# Altium schematic symbol library ToradexMainBoard-V0I1.SCHLIB: 303 symbols (part 8 of 14)
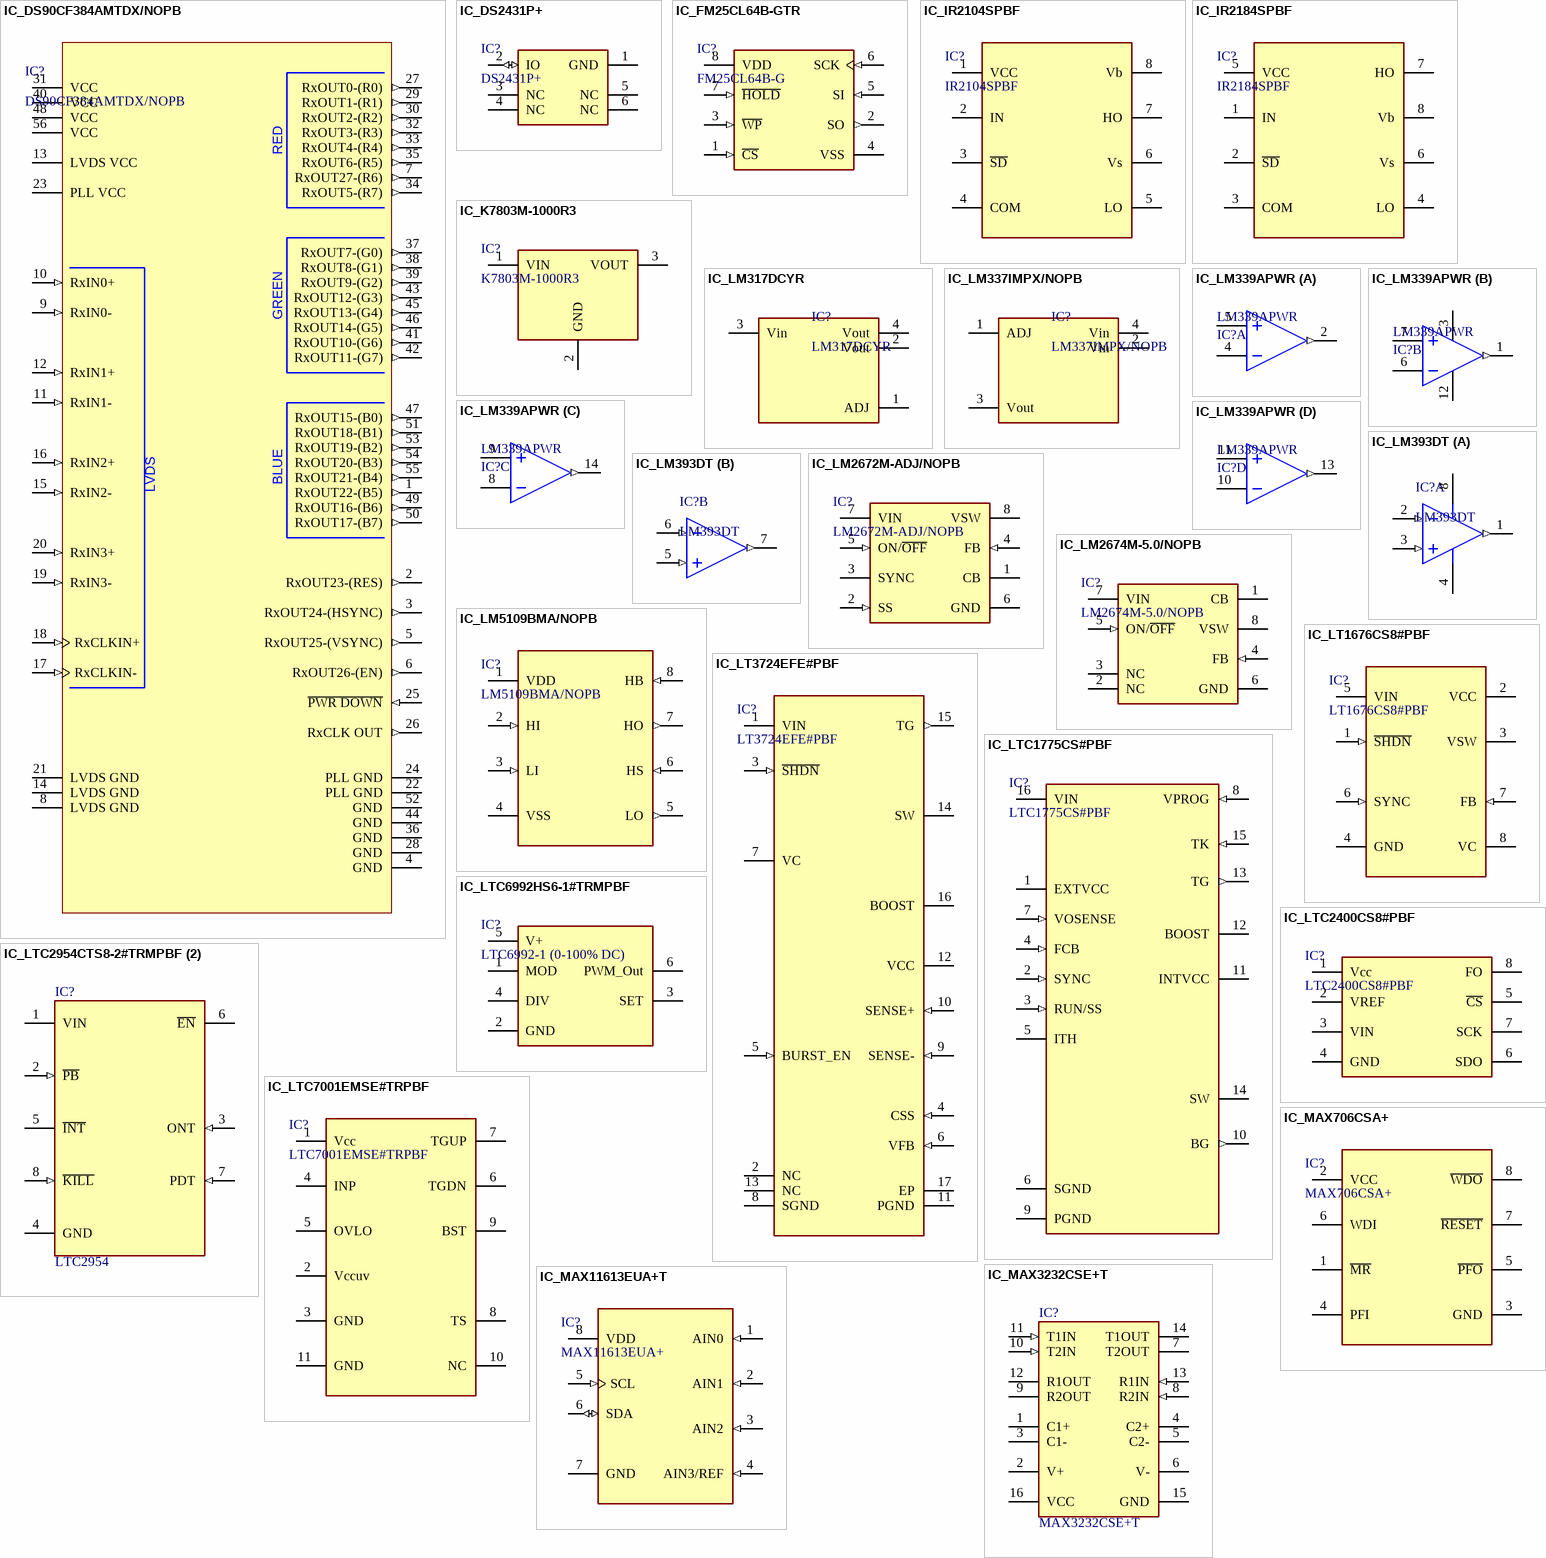
[diagram p22: symbols IC_DS90CF384AMTDX/NOPB to IC_MAX11613EUA+T]

## IC_LTC6992HS6-1#TRMPBF
designator IC?, comment LTC6992-1 (0-100% DC)
Linear Technology LTC6992HS6-1#TRMPBF Linear IC; Manufacturer: Analog Devices / Linear Technology; Frequency: 3.81Hz; Operating Supply Current: 365uA; Supplier 1: Digi-Key; Manufacturer Part Number: LTC6992HS6-1#TRMPBF; RoHS: Yes; Category: Clock and Timing; Stock 1: 892; Pricing 1: 1=5,53000, 25=3,05960 (USD); Mount: Surface Mount; Case/Package: SOT-23-6; Number of Pins: 23; Min Operating Temperature: -40°C; Max Operating Temperature: 125°C; Packaging: Tape and Reel; Package Quantity: 500; Length: 2.9mm; Depth: 1.75mm; Radiation Hardening: No; Lead Free: Lead Free; ComponentLink1URL: https://datasheet.ciiva.com/15116/getdatasheetpartid-627064-15116214.pdf?src-supplier=Verical; ComponentLink1Description: https://datasheet.ciiva.com/15116/getdatasheetpartid-627064-15116214.pdf?src-supplier=Verical; ComponentLink2URL: https://datasheet.ciiva.com/1232/29337-1232835.pdf?src-supplier=Digi-Key; ComponentLink2Description: https://datasheet.ciiva.com/1232/29337-1232835.pdf?src-supplier=Digi-Key; ComponentLink3URL: https://datasheet.ciiva.com/1232/29337-1232836.pdf?src-supplier=Digi-Key; ComponentLink3Description: https://datasheet.ciiva.com/1232/29337-1232836.pdf?src-supplier=Digi-Key; ComponentLink4URL: https://datasheet.ciiva.com/1232/29337-1232837.pdf?src-supplier=Digi-Key; ComponentLink4Description: https://datasheet.ciiva.com/1232/29337-1232837.pdf?src-supplier=Digi-Key; Supplier Part Number 1: LTC6992HS6-1#TRMPBFCT-ND
footprint TSOT_LTC6992-1
pins: 1 MOD, 2 GND, 3 SET, 4 DIV, 5 V+, 6 PWM_Out

## IC_LTC7001EMSE#TRPBF
designator IC?, comment LTC7001EMSE#TRPBF
IC GATE DRVR N-CH MOSFET 10MSOP; Manufacturer: Analog Devices / Linear Technology; Supplier 1: Mouser; Manufacturer Part Number: LTC7001EMSE#TRPBF; RoHS: No; Category: Gate Drivers; Stock 1: 1246; ComponentLink1URL: http://www.linear.com/docs/58157?src-supplier=Digi-Key; ComponentLink1Description: http://www.linear.com/docs/58157?src-supplier=Digi-Key; Supplier Part Number 1: 584-7001EMSETRPBF
footprint LTC7001_MSOP (TSOP, 10-Leads, Body 3.1x3.1mm, Pitch 0.5mm, Thermal Pad 1.88x1.57mm, IPC High Density)
pins: 1 Vcc (power) "Power Supply Input: 2.7V to 26.4V", 2 Vccuv "Kill Input. Forcing K\I\L\L\ low releases the  enable output. During system turn-on, this pin is blanked by  a 512ms internal timer (tK\I\L\L\,ON BLANK) to allow the system  to pull K\I\L\L\ high. This pin has an accurate 0.(See Datasheet)", 3 GND (power) "Device Ground.", 4 INP "Pushbutton Input. Connecting P\B\ to  ground through a momentary switch provides on/off  control via the EN/E\N\ and I\N\T\ outputs. An internal 100k  pull-up resistor connects to an internal 1.9V bias voltage.  The rugged (See Datasheet)", 5 OVLO (oc) "Open Drain Interrupt Output. After a  pushbutton turn-off event is detected (tDB,OFF ), the LTC2954  interrupts the system (uP) by asserting the I\N\T\ pin low.  The uP would perform power-down and housekeeping  tasks and (See Datasheet)", 6 TGDN "Turn-On Time Input. Placing an external  capacitor to ground determines the additional time (6.4  seconds/uF) the P\B\ pin must be held low before the enable  output is asserted. Floating this pin results in a default  turn (See Datasheet)", 7 TGUP "Turn-On Time Input. Placing an external  capacitor to ground determines the additional time (6.4  seconds/uF) the P\B\ pin must be held low before the enable  output is asserted. Floating this pin results in a default  turn (See Datasheet)", 8 TS "Power-Down Time Input. A capacitor  to ground determines the additional time (6.4 seconds/uF)  that the pushbutton must be held low before immediately  releasing the EN/E\N\ and I\N\T\ outputs. Floating this pin  results in (See Datasheet)", 9 BST "Turn-On Time Input. Placing an external  capacitor to ground determines the additional time (6.4  seconds/uF) the P\B\ pin must be held low before the enable  output is asserted. Floating this pin results in a default  turn (See Datasheet)", 10 NC (oc) "Open Drain Enable Output.  This pin is intended to enable system power. EN is asserted  high after a valid P\B\ turn-on event (tDB,ON + tONT). EN is  released low if: a) K\I\L\L\ is not driven high (by uP) within  512ms of (See Datasheet)", 11 GND (power) "Device Ground."

## IC_MAX706CSA+
designator IC?, comment MAX706CSA+
MAXIM INTEGRATED PRODUCTS         MAX706CSA+             Supervisory Circuit, Active-Low Reset, 1V-5.5Vin, SOIC-8; Max Supply Voltage: 5.5V; Min Supply Voltage: 1V; Max Power Dissipation: 471mW; Max Supply Current: 350uA; Watchdog Timer: Yes; Min Reset Threshold Voltage: 4.25V; Max Reset Threshold Voltage: 4.5V; Number of Voltages Monitored: 1; Reset: Active Low; Reset Timeout: 140ms; Threshold Voltage: 4.4V; Max Output Current: 20mA; Nominal Supply Current: 150uA; Supplier 1: Farnell; Manufacturer: Maxim; Manufacturer Part Number: MAX706CSA+; RoHS: Yes; Category: Voltage Supervisors; Stock 1: 114; Pricing 1: 1=3,26000, 10=2,57000, 25=2,35000, 50=2,28000, 100=2,22000, 250=2,16000, 500=2,10000, 1000=2,04000 (EUR); Mount: Surface Mount; Case/Package: SOIC; Number of Pins: 8; Min Operating Temperature: 0°C; Max Operating Temperature: 70°C; Packaging: Rail/Tube; Package Quantity: 100; Type: Simple Reset/Power-On Reset; Overvoltage Threshold: 4.5V; Undervoltage Threshold: 4.25V; Operating Supply Current: 350uA; Power Dissipation: 471mW; Length: 5mm; Width: 4mm; Height: 1.5mm; Radiation Hardening: No; Lead Free: Lead Free; REACH SVHC: Unknown; ComponentLink1URL: https://datasheet.ciiva.com/26885/max706csa-26885447.pdf?src-supplier=IIIC; ComponentLink1Description: https://datasheet.ciiva.com/26885/max706csa-26885447.pdf?src-supplier=IIIC; ComponentLink2URL: https://datasheet.ciiva.com/1973/max705-max813l-1973865.pdf?src-supplier=Digi-Key; ComponentLink2Description: https://datasheet.ciiva.com/1973/max705-max813l-1973865.pdf?src-supplier=Digi-Key; ComponentLink3URL: https://datasheet.ciiva.com/14562/70157162-14562185.pdf?src-supplier=Allied+Electronics; ComponentLink3Description: https://datasheet.ciiva.com/14562/70157162-14562185.pdf?src-supplier=Allied+Electronics; ComponentLink4URL: https://datasheet.ciiva.com/14214/max705-max813l-14214270.pdf?src-supplier=Avnet; ComponentLink4Description: https://datasheet.ciiva.com/14214/max705-max813l-14214270.pdf?src-supplier=Avnet; ComponentLink5URL: https://datasheet.ciiva.com/17223/max705-max813l-17223423.pdf?src-supplier=Avnet+Europe; ComponentLink5Description: https://datasheet.ciiva.com/17223/max705-max813l-17223423.pdf?src-supplier=Avnet+Europe; ComponentLink6URL: https://datasheet.ciiva.com/14180/kpmax705-to-max708-e-14180074.pdf?src-supplier=Distrelec; ComponentLink6Description: https://datasheet.ciiva.com/14180/kpmax705-to-max708-e-14180074.pdf?src-supplier=Distrelec; ComponentLink7URL: https://datasheet.ciiva.com/1169/7387-1169757.pdf?src-supplier=Element14; ComponentLink7Description: https://datasheet.ciiva.com/1169/7387-1169757.pdf?src-supplier=Element14; ComponentLink8URL: https://datasheet.ciiva.com/2002/max705-max813l-2002477.pdf?src-supplier=Digi-Key; ComponentLink8Description: https://datasheet.ciiva.com/2002/max705-max813l-2002477.pdf?src-supplier=Digi-Key; Supplier Part Number 1: 2519523
footprint MAX706_SOIC8
pins: 1 ~{MR} (power) "Power Supply Input: 2.7V to 26.4V", 2 VCC (power) "Power Supply Input: 2.7V to 26.4V", 3 GND (power) "Power Supply Input: 2.7V to 26.4V", 4 PFI (power) "Power Supply Input: 2.7V to 26.4V", 5 ~{PFO} (power) "Power Supply Input: 2.7V to 26.4V", 6 WDI (power) "Power Supply Input: 2.7V to 26.4V", 7 ~{RESET} (power) "Power Supply Input: 2.7V to 26.4V", 8 ~{WDO} (power) "Power Supply Input: 2.7V to 26.4V"

## IC_MAX3232CSE+T
designator IC?, comment MAX3232CSE+T
RS232 TXRX, 235KBPS, 5.5V, NSOIC-16; Device Type:Transceiver; IC Interface Type:RS232; No. of Drivers:2; Supply Voltage Min:3V; Supply Voltage Max:5.5V; Driver Case Style:NSOIC; No. of Pins:16; Operating Temperature Min:0°C; Operating Temperature Max:70°C; Packaging:Cut Tape; MSL:MSL 1 - Unlimited; Shutdown: No; Brand: MaximIntegrated; Number of Receivers: 2Receiver; Supply Current: 1mA; Number of Drivers: 2Driver; Operating Supply Voltage: 3Vto5.5V; Number of I/Os: 8; Propagation Delay Time ns: 0.3us; Package Version: Rev. G, 01/2016; Number of Transmitters: 2; Logic Function: Transceiver,Receiver; Number of Transceivers: 1; Min Supply Voltage: 3V; Interface: RS-232; PCBChecked: initials after Checked; Datasheet Version: Rev. 7, 01/2007; Data Rate: 235kbps; Package Description: 16-Pin Small Outline Integrated Circuit, Body 9.9 x 3.9 mm, Pitch 1.27 mm; Package / Case: SO-Narrow-16; Package Reference: S16+1; Package URL: http://pdfserv.maximintegrated.com/package_dwgs/21-0041.PDF; Function: Transceiver; Packaging: Reel; Manufacturer URL: http://www.maximintegrated.com/; Maximum Operating Temperature: +70C; Series: MAX3232; Datasheet URL: https://datasheets.maximintegrated.com/en/ds/MAX3222-MAX3241.pdf; Product Category: RS-232InterfaceIC; Operating Temperature Range: 0Cto+70C; Factory Pack Quantity: 2500; Mounting Style: SMD/SMT; Minimum Operating Temperature: 0C; Manufacturer: MaximIntegrated; Mounting Technology: SurfaceMount; RoHS: Details; Supplier 1: Digi-Key; Manufacturer Part Number: MAX3232CSE+T; Category: RS-232 / RS-422 / RS-485 Interface ICs; Mount: Surface Mount; Case/Package: SOIC; Number of Pins: 16; Contact Plating: Tin,Matte; Min Operating Temperature: 0°C; Max Operating Temperature: 70°C; Max Supply Voltage: 5.5V; Package Quantity: 1; Propagation Delay: 0.3us; Nominal Supply Current: 1mA; Length: 10mm; Height: 1.5mm; Width: 4mm; Radiation Hardening: No; Lead Free: Lead Free; REACH SVHC: Unknown; ComponentLink1URL: https://datasheet.ciiva.com/22828/0900766b810e26b2-22828286.pdf?src-supplier=RSComponents; ComponentLink1Description: https://datasheet.ciiva.com/22828/0900766b810e26b2-22828286.pdf?src-supplier=RSComponents; ComponentLink2URL: https://datasheet.ciiva.com/26834/max3232cse-t-26834857.pdf?src-supplier=IIIC; ComponentLink2Description: https://datasheet.ciiva.com/26834/max3232cse-t-26834857.pdf?src-supplier=IIIC; ComponentLink3URL: https://datasheet.ciiva.com/8075/max3222-max3241-8075463.pdf?src-supplier=Element14; ComponentLink3Description: https://datasheet.ciiva.com/8075/max3222-max3241-8075463.pdf?src-supplier=Element14; ComponentLink4URL: https://datasheet.ciiva.com/14084/max3222-max3241-14084906.pdf?src-supplier=Digi-Key; ComponentLink4Description: https://datasheet.ciiva.com/14084/max3222-max3241-14084906.pdf?src-supplier=Digi-Key; ComponentLink5URL: https://datasheet.ciiva.com/14084/max3222-max3241-14084907.pdf?src-supplier=Digi-Key; ComponentLink5Description: https://datasheet.ciiva.com/14084/max3222-max3241-14084907.pdf?src-supplier=Digi-Key; ComponentLink6URL: https://datasheet.ciiva.com/14084/max3222-max3241-14084908.pdf?src-supplier=Digi-Key; ComponentLink6Description: https://datasheet.ciiva.com/14084/max3222-max3241-14084908.pdf?src-supplier=Digi-Key; ComponentLink7URL: https://datasheet.ciiva.com/16641/max3222-max3241-16641885.pdf?src-supplier=Avnet+Europe; ComponentLink7Description: https://datasheet.ciiva.com/16641/max3222-max3241-16641885.pdf?src-supplier=Avnet+Europe; ComponentLink8URL: https://datasheet.ciiva.com/3029/max3222-max3241-3029550.pdf?src-supplier=Avnet; ComponentLink8Description: https://datasheet.ciiva.com/3029/max3222-max3241-3029550.pdf?src-supplier=Avnet; Supplier Part Number 1: MAX3232CSE+TCT-ND; Stock 1: 2484; IPC7352C: done; SCHChecked: Initials after checked
footprint MAX3232 (SOIC 14 pin)
pins: 1 C1+ "Positive Terminal of Voltage-Doubler Charge-Pump Capacitor", 2 V+ (power) "+5.5 V Generated by the Charge Pump", 3 C1- "Negative Terminal of Voltage-Doubler Charge-Pump Capacitor", 4 C2+ "Positive Terminal of Inverting Charge-Pump Capacitor", 5 C2- "Negative Terminal of Inverting Charge-Pump Capacitor", 6 V- (power) "-5.5 V Generated by the Charge Pump", 7 T2OUT (hiz) "RS-232 Transmitter Outputs", 8 R2IN (in) "RS-232 Receiver Inputs", 9 R2OUT (hiz) "TTL/CMOS Receiver Outputs", 10 T2IN (in) "TTL/CMOS Transmitter Inputs", 11 T1IN (in) "TTL/CMOS Transmitter Inputs", 12 R1OUT (hiz) "TTL/CMOS Receiver Outputs", 13 R1IN (in) "RS-232 Receiver Inputs", 14 T1OUT (hiz) "RS-232 Transmitter Outputs", 15 GND (power) "Ground", 16 VCC (power) "+3.0 V to +5.5 V Supply Voltage"

## IC_MAX11613EUA+T
designator IC?, comment MAX11613EUA+
GLOVE, POLYAMIDE, L/FREE, PU, SIZE 6 - More Details; Manufacturer: Maxim; Manufacturer Part Number: MAX11613EUA+T; Sampling Rate: 94400S/s; Number of A/D Converters: 1; Resolution: 12b; Polarity: Bipolar,Unipolar; Interface: I2C,Serial; Max Power Dissipation: 470.6mW; Number of Bits: 12; Supply Type: Single; Conversion Rate: 94.4KS/s; Signal to Noise Ratio (SNR): 70dB; Operating Supply Voltage: 3.6V; Supplier 1: Mouser; RoHS: Yes; Category: Analog to Digital Converters (ADCs); Stock 1: 4562; Pricing 1: 1=2,95000, 10=2,64000, 50=2,49000, 100=2,28000, 1000=2,18000, 10000=2,10000, 1=2,50000, 10=2,24000, 25=2,11000, 100=1,93000, 250=1,91000, 500=1,89000, 1000=1,85000, 2500=1,78000, 5000=1,75000 (USD); Mount: Surface Mount; Case/Package: UMAX; Number of Pins: 8; Min Operating Temperature: -40°C; Max Operating Temperature: 85°C; Package Quantity: 2500; Packaging: Tape and Reel; Number of Converters: 1; Series: -; Radiation Hardening: No; RoHS Compliant: Yes; ComponentLink1URL: https://datasheet.ciiva.com/1316/max11612-max11617-1316098.pdf?src-supplier=Digi-Key; ComponentLink1Description: https://datasheet.ciiva.com/1316/max11612-max11617-1316098.pdf?src-supplier=Digi-Key; ComponentLink2URL: https://datasheet.ciiva.com/13061/max11612-max11617-78493-13061594.pdf?src-supplier=Mouser; ComponentLink2Description: https://datasheet.ciiva.com/13061/max11612-max11617-78493-13061594.pdf?src-supplier=Mouser; ComponentLink3URL: https://datasheet.ciiva.com/14260/max11612-max11617-14260874.pdf?src-supplier=Avnet; ComponentLink3Description: https://datasheet.ciiva.com/14260/max11612-max11617-14260874.pdf?src-supplier=Avnet; ComponentLink4URL: https://datasheet.ciiva.com/16611/max11612-max11617-16611371.pdf?src-supplier=Avnet+Europe; ComponentLink4Description: https://datasheet.ciiva.com/16611/max11612-max11617-16611371.pdf?src-supplier=Avnet+Europe; Supplier Part Number 1: 700-MAX11613EUA+T
footprint MAX11613_TSSOP8
pins: 1 AIN0 (in) "Differential channel 1: Negative input or single-ended channel 2 input", 2 AIN1 (in) "Differential channel 1: Negative input or single-ended channel 2 input", 3 AIN2 (in) "Differential channel 1: Positive input or single-ended channel 1 input", 4 AIN3/REF (in) "Differential channel 1: Negative input or single-ended channel 2 input", 5 SCL (in) "Serial clock input: Clocks data on SDA", 6 SDA (io) "Serial data: Transmits and receives data", 7 GND (power) "Ground", 8 VDD (power) "Power supply: 2.0V to 5.5V"

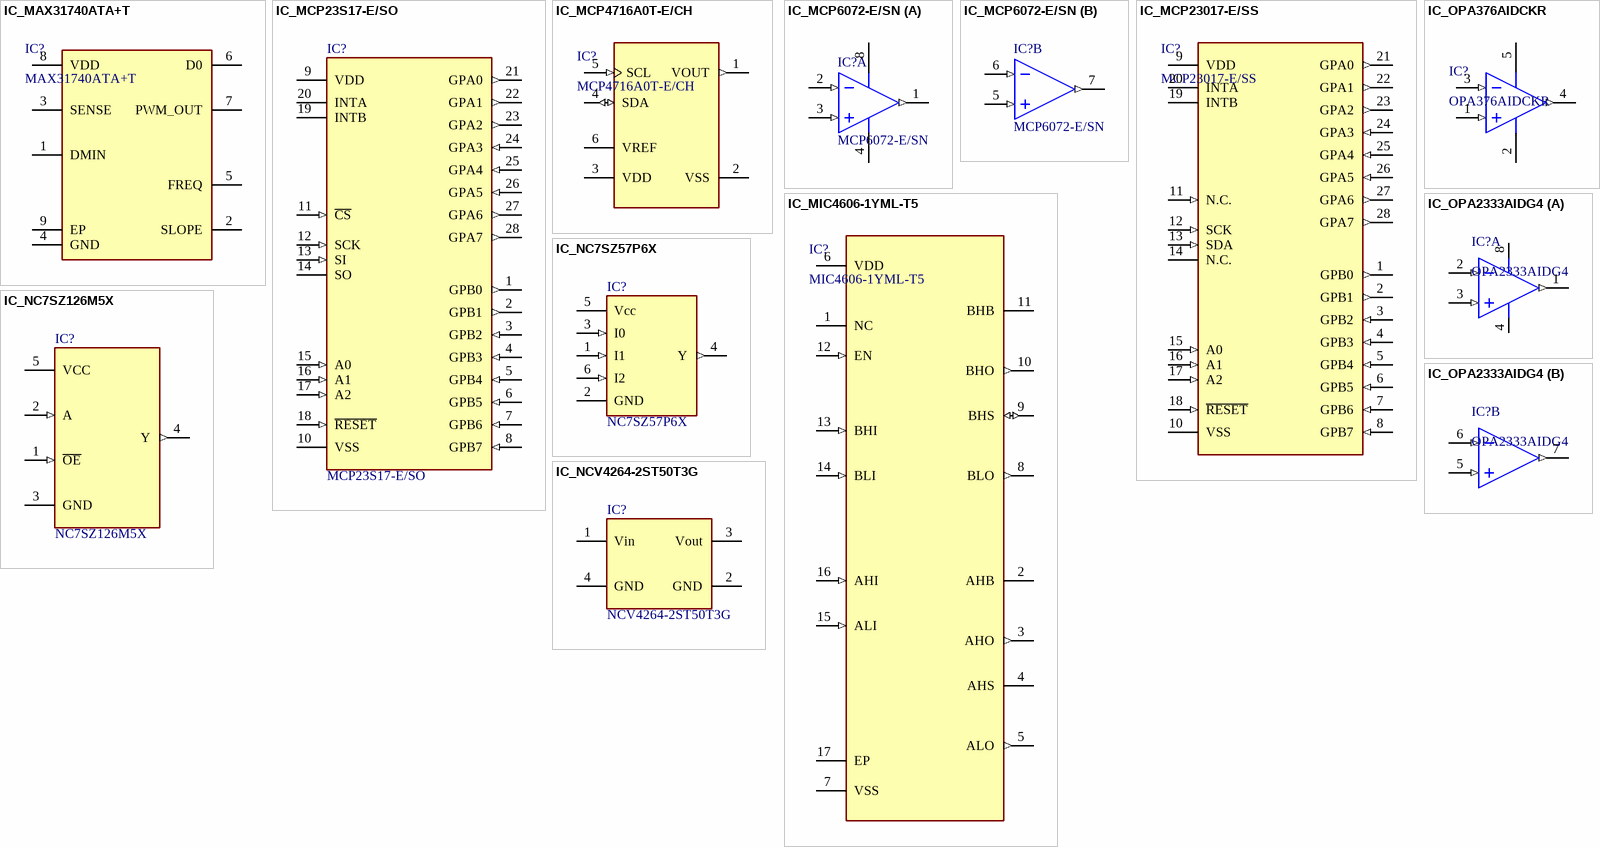
[diagram p11: symbols IC_MAX31740ATA+T to IC_OPA2333AIDG4]

## IC_MAX31740ATA+T
designator IC?, comment MAX31740ATA+T
Fan Motor Speed Controller 3V to 5.5V 8-Pin TDFN EP T/R; Manufacturer: Maxim; Nominal Supply Current: 500uA; Number of Outputs: 1; Operating Supply Voltage: 3.3V; Supplier 1: Farnell; Manufacturer Part Number: MAX31740ATA+T; RoHS: Yes; Category: Interface ICs; Stock 1: 3651; Pricing 1: 1=0,68100, 25=0,65100, 50=0,63100, 100=0,51100, 250=0,51000, 500=0,49000, 1000=0,47000, 2500=0,44300 (EUR); Mount: Surface Mount; Number of Pins: 8; Min Operating Temperature: -40°C; Max Operating Temperature: 125°C; Packaging: Tape and Reel; Package Quantity: 2500; ComponentLink1URL: https://datasheet.ciiva.com/18624/max31740-18624789.pdf?src-supplier=Digi-Key; ComponentLink1Description: https://datasheet.ciiva.com/18624/max31740-18624789.pdf?src-supplier=Digi-Key; Supplier Part Number 1: 2909738
footprint TDFN-MN8 (SON, 8-Leads, Body 2x3mm, Pitch 0.5mm, Microchip Recommended)
pins: 1 DMIN (power) "This pin is used to power the internal control circuitry off of the switching supply output. Proper use of this pin enhances overall power supply efficiency. During start-up conditions, internal control circuitry is powered (See Datasheet)", 2 SLOPE (power) "This pin is used to power the internal control circuitry off of the switching supply output. Proper use of this pin enhances overall power supply efficiency. During start-up conditions, internal control circuitry is powered (See Datasheet)", 3 SENSE (power) "This pin is used to power the internal control circuitry off of the switching supply output. Proper use of this pin enhances overall power supply efficiency. During start-up conditions, internal control circuitry is powered (See Datasheet)", 4 GND (power) "This pin is used to power the internal control circuitry off of the switching supply output. Proper use of this pin enhances overall power supply efficiency. During start-up conditions, internal control circuitry is powered (See Datasheet)", 5 FREQ (power) "This pin is used to power the internal control circuitry off of the switching supply output. Proper use of this pin enhances overall power supply efficiency. During start-up conditions, internal control circuitry is powered (See Datasheet)", 6 D0 (power) "This pin is used to power the internal control circuitry off of the switching supply output. Proper use of this pin enhances overall power supply efficiency. During start-up conditions, internal control circuitry is powered (See Datasheet)", 7 PWM_OUT (power) "This pin is used to power the internal control circuitry off of the switching supply output. Proper use of this pin enhances overall power supply efficiency. During start-up conditions, internal control circuitry is powered (See Datasheet)", 8 VDD (power) "This pin is used to power the internal control circuitry off of the switching supply output. Proper use of this pin enhances overall power supply efficiency. During start-up conditions, internal control circuitry is powered (See Datasheet)", 9 EP (power) "This pin is used to power the internal control circuitry off of the switching supply output. Proper use of this pin enhances overall power supply efficiency. During start-up conditions, internal control circuitry is powered (See Datasheet)"

## IC_MCP23S17-E/SO
designator IC?, comment MCP23S17-E/SO
SPI GPIO Expander 5.5V 28-Pin SOIC W Tube; Manufacturer: Microchip; Number of I/Os: 16; Interface: SPI,Serial; Min Supply Voltage: 4.5V; Nominal Supply Current: 1mA; Number of Channels: 1; Max Frequency: 10MHz; Output Current: 25mA; Max Power Dissipation: 700mW; Supplier 1: Digi-Key; Manufacturer Part Number: MCP23S17-E/SO; RoHS: Yes; Category: Interface ICs; Stock 1: 2675; Pricing 1: 1=1,26000, 25=1,05000, 100=0,95000 (USD); Mount: Surface Mount; Case/Package: SOIC; Number of Pins: 28; Weight: 0.078125oz; Contact Plating: Tin,Matte; Min Operating Temperature: -40°C; Max Operating Temperature: 125°C; Packaging: Rail/Tube; Max Supply Voltage: 5.5V; Frequency: 10MHz; Number of Bits: 16; REACH SVHC: No SVHC; Lead Free: Lead Free; ComponentLink1URL: https://datasheet.ciiva.com/1495/12170-1495924.pdf?src-supplier=Element14; ComponentLink1Description: https://datasheet.ciiva.com/1495/12170-1495924.pdf?src-supplier=Element14; ComponentLink2URL: https://datasheet.ciiva.com/16454/filehandler-aspxddocname-en023709-16454249.pdf?src-supplier=Future+Electronics; ComponentLink2Description: https://datasheet.ciiva.com/16454/filehandler-aspxddocname-en023709-16454249.pdf?src-supplier=Future+Electronics; ComponentLink3URL: https://datasheet.ciiva.com/3148/21952b-3148474.pdf?src-supplier=Avnet; ComponentLink3Description: https://datasheet.ciiva.com/3148/21952b-3148474.pdf?src-supplier=Avnet; ComponentLink4URL: https://datasheet.ciiva.com/1780/21952b-1780094.pdf?src-supplier=Digi-Key; ComponentLink4Description: https://datasheet.ciiva.com/1780/21952b-1780094.pdf?src-supplier=Digi-Key; Supplier Part Number 1: MCP23S17-E/SO-ND
footprint MCP23S17-E/SO_SOIC-SO28_M (SOIC, 28-Leads, Body 17.9x7.5mm, Pitch 1.27mm, IPC Low Density)
pins: 1 GPB0 (out), 2 GPB1 (out), 3 GPB2 (in), 4 GPB3 (in), 5 GPB4 (in), 6 GPB5 (in), 7 GPB6 (in), 8 GPB7 (in), 9 VDD (power), 10 VSS (power), 11 ~{CS} (in), 12 SCK (in), 13 SI (in), 14 SO (hiz), 15 A0 (in), 16 A1 (in), 17 A2 (in), 18 ~{RESET} (in), 19 INTB (oc), 20 INTA (oc), 21 GPA0 (out), 22 GPA1 (out), 23 GPA2 (out), 24 GPA3 (in), 25 GPA4 (in), 26 GPA5 (in), 27 GPA6 (out), 28 GPA7 (out)

## IC_MCP4716A0T-E/CH
designator IC?, comment MCP4716A0T-E/CH
IC DAC 10BIT NV EEP I2C SOT-23-6; Manufacturer: Microchip; Number of Channels: 1; Interface: I2C,Serial,2-Wire; Nominal Supply Current: 210uA; Max Power Dissipation: 452mW; Max Supply Voltage: 5.5V; Min Supply Voltage: 2.7V; Resolution: 10b; Settling Time: 6us; Number of Bits: 10; Full Scale Error: 20.5LSB; Integral Nonlinearity (INL): 3.625LSB; Output Type: Voltage; Polarity: Unipolar; Supplier 1: Farnell; Manufacturer Part Number: MCP4716A0T-E/CH; RoHS: Yes; Category: Digital to Analog Converters (DACs); Stock 1: 4527; Pricing 1: 1=0,71600, 10=0,65900, 25=0,60200, 50=0,57200, 100=0,54100 (EUR); Mount: Surface Mount; Case/Package: SOT-23; Number of Pins: 6; Min Operating Temperature: -40°C; Max Operating Temperature: 125°C; Packaging: Tape and Reel; Package Quantity: 3000; Number of Converters: 1; Number of DAC Channels: 1; Length: 3.1mm; Width: 1.8mm; Height: 1.3mm; Lead Free: Lead Free; REACH SVHC: No SVHC; ComponentLink1URL: https://datasheet.ciiva.com/16704/70048195-16704325.pdf?src-supplier=Allied+Electronics; ComponentLink1Description: https://datasheet.ciiva.com/16704/70048195-16704325.pdf?src-supplier=Allied+Electronics; ComponentLink2URL: https://datasheet.ciiva.com/1359/22272c-1359736.pdf?src-supplier=Digi-Key; ComponentLink2Description: https://datasheet.ciiva.com/1359/22272c-1359736.pdf?src-supplier=Digi-Key; ComponentLink3URL: https://datasheet.ciiva.com/1359/22272c-1359737.pdf?src-supplier=Digi-Key; ComponentLink3Description: https://datasheet.ciiva.com/1359/22272c-1359737.pdf?src-supplier=Digi-Key; ComponentLink4URL: https://datasheet.ciiva.com/1359/22272c-1359738.pdf?src-supplier=Digi-Key; ComponentLink4Description: https://datasheet.ciiva.com/1359/22272c-1359738.pdf?src-supplier=Digi-Key; ComponentLink5URL: https://datasheet.ciiva.com/14152/mcp4706-16-26-eng-ds-14152890.pdf?src-supplier=Distrelec; ComponentLink5Description: https://datasheet.ciiva.com/14152/mcp4706-16-26-eng-ds-14152890.pdf?src-supplier=Distrelec; ComponentLink6URL: https://datasheet.ciiva.com/22696/1669523-22696430.pdf?src-supplier=Element14; ComponentLink6Description: https://datasheet.ciiva.com/22696/1669523-22696430.pdf?src-supplier=Element14; Supplier Part Number 1: 1925045
footprint MCP4716_SOT23-6
pins: 1 VOUT (out), 2 VSS (power), 3 VDD (power), 4 SDA (io), 5 SCL (in), 6 VREF (power)

## IC_MCP6072-E/SN
designator IC?, comment MCP6072-E/SN
IC OPAMP GP 1.2MHZ RRO 8SOIC; Manufacturer: Microchip; Min Supply Voltage: 1.8V; Max Supply Voltage: 6V; Voltage Gain: 115dB; Common Mode Rejection Ratio: 72dB; Number of Channels: 2; Output Current: 28mA; Slew Rate: 0.5V/µs; Nominal Supply Current: 110uA; Input Offset Voltage (Vos): 150uV; Input Bias Current: 100pA; Power Supply Rejection Ratio (PSRR): 70dB; Supplier 1: Farnell; Manufacturer Part Number: MCP6072-E/SN; RoHS: Yes; Category: Amplifiers - Op Amps, Buffer, Instrumentation; Stock 1: 10975; Pricing 1: 1=0,82200, 10=0,75200, 25=0,68000, 100=0,62300 (EUR); Mount: Surface Mount; Case/Package: SOIC; Number of Pins: 8; Min Operating Temperature: -40°C; Max Operating Temperature: 125°C; Packaging: Rail/Tube; Package Quantity: 100; Bandwidth: 1.2MHz; Unity Gain Bandwidth Product: 1.2MHz; Gain Bandwidth Product: 1.2MHz; Operating Supply Current: 110uA; Number of Circuits: 2; Output Current per Channel: 28mA; Number of Elements: 2; Number of Amplifiers: 2; Length: 0.192inch; Height: 0.049inch; Width: 0.154inch; Radiation Hardening: No; REACH SVHC: No SVHC; Lead Free: Lead Free; ComponentLink1URL: https://datasheet.ciiva.com/26843/mcp6072-e-sn-26843527.pdf?src-supplier=IIIC; ComponentLink1Description: https://datasheet.ciiva.com/26843/mcp6072-e-sn-26843527.pdf?src-supplier=IIIC; ComponentLink2URL: https://datasheet.ciiva.com/26344/651512-da-01-en-ic-opamp-mcp6072-e-sn-soic-8n-mcp-26344520.pdf?src-supplier=Conrad; ComponentLink2Description: https://datasheet.ciiva.com/26344/651512-da-01-en-ic-opamp-mcp6072-e-sn-soic-8n-mcp-26344520.pdf?src-supplier=Conrad; ComponentLink3URL: https://datasheet.ciiva.com/16450/filehandler-aspxddocname-en540513-16450533.pdf?src-supplier=Future+Electronics; ComponentLink3Description: https://datasheet.ciiva.com/16450/filehandler-aspxddocname-en540513-16450533.pdf?src-supplier=Future+Electronics; ComponentLink4URL: https://datasheet.ciiva.com/8078/1062688-8078838.pdf?src-supplier=Element14; ComponentLink4Description: https://datasheet.ciiva.com/8078/1062688-8078838.pdf?src-supplier=Element14; ComponentLink5URL: https://datasheet.ciiva.com/26947/getdatasheetpartid-784704-26947818.pdf?src-supplier=Verical; ComponentLink5Description: https://datasheet.ciiva.com/26947/getdatasheetpartid-784704-26947818.pdf?src-supplier=Verical; ComponentLink6URL: https://datasheet.ciiva.com/1793/22142-b-mcp6071-1793851.pdf?src-supplier=Digi-Key; ComponentLink6Description: https://datasheet.ciiva.com/1793/22142-b-mcp6071-1793851.pdf?src-supplier=Digi-Key; Supplier Part Number 1: 1715857
footprint MCP6072_SOIC8 (MCP6072)
part A pins: 1 VOUTA (out), 2 VINA- (in), 3 VINA+ (in), 4 VSS (power), 8 VDD (power)
part B pins: 5 VINB+ (in), 6 VINB- (in), 7 VOUTB (out)

## IC_MCP23017-E/SS
designator IC?, comment MCP23017-E/SS
I²C Bus IC Operating temperature: -40...+125 °C Power supply: 1.8...5.5 V Package: SSOP-20; Manufacturer: Microchip; Interface: I2C,Serial; Min Supply Voltage: 4.5V; Max Supply Voltage: 5.5V; Number of Channels: 1; Nominal Supply Current: 1mA; Output Current: 25mA; Max Power Dissipation: 700mW; Number of I/Os: 16; Max Frequency: 1.7MHz; Output Type: PUSH-PULL; Supplier 1: Farnell; Manufacturer Part Number: MCP23017-E/SS; RoHS: Yes; Category: Interface ICs; Stock 1: 15856; Pricing 1: 1=2,13000, 25=1,60000, 100=1,57000 (EUR); Mount: Surface Mount; Case/Package: SSOP; Number of Pins: 28; Weight: 0.080001oz; Min Operating Temperature: -40°C; Max Operating Temperature: 125°C; Series: -; Packaging: Rail/Tube; Frequency: 1.7MHz; Number of Bits: 16; Supply Voltage-Nom: 5.5V; Supply Current: 1mA; Reach SVHC Compliant: Yes; Lead Free: Lead Free; RoHS Compliant: Yes; ComponentLink1URL: https://datasheet.ciiva.com/1495/12179-1495878.pdf?src-supplier=Element14; ComponentLink1Description: https://datasheet.ciiva.com/1495/12179-1495878.pdf?src-supplier=Element14; ComponentLink2URL: https://datasheet.ciiva.com/3149/21952b-3149160.pdf?src-supplier=Avnet; ComponentLink2Description: https://datasheet.ciiva.com/3149/21952b-3149160.pdf?src-supplier=Avnet; ComponentLink3URL: https://datasheet.ciiva.com/1780/21952b-1780093.pdf?src-supplier=Digi-Key; ComponentLink3Description: https://datasheet.ciiva.com/1780/21952b-1780093.pdf?src-supplier=Digi-Key; ComponentLink4URL: https://datasheet.ciiva.com/16454/filehandler-aspxddocname-en023709-16454261.pdf?src-supplier=Future+Electronics; ComponentLink4Description: https://datasheet.ciiva.com/16454/filehandler-aspxddocname-en023709-16454261.pdf?src-supplier=Future+Electronics; Supplier Part Number 1: 1467674
footprint IC_MCP23017-E/SS_SSOP28 (SOP, 28-Leads, Body 9.8x4.5mm, Pitch 0.65mm, Thermal Pad 5.18x3.1mm, IPC High Density)
pins: 1 GPB0 (out), 2 GPB1 (out), 3 GPB2 (in), 4 GPB3 (in), 5 GPB4 (in), 6 GPB5 (in), 7 GPB6 (in), 8 GPB7 (in), 9 VDD (power), 10 VSS (power), 11 N.C. (in), 12 SCK (in), 13 SDA (in), 14 N.C. (hiz), 15 A0 (in), 16 A1 (in), 17 A2 (in), 18 ~{RESET} (in), 19 INTB (oc), 20 INTA (oc), 21 GPA0 (out), 22 GPA1 (out), 23 GPA2 (out), 24 GPA3 (in), 25 GPA4 (in), 26 GPA5 (in), 27 GPA6 (out), 28 GPA7 (out)

## IC_MIC4606-1YML-T5
designator IC?, comment MIC4606-1YML-T5
Driver 1A 4-OUT High and Low Side Full Brdg Non-Inv 16-Pin QFN EP T/R; Manufacturer: Microchip; Channel Type: Independent; Number of Drivers: 4; Supplier 1: Farnell; Manufacturer Part Number: MIC4606-1YML-T5; RoHS: Yes; Category: Gate Drivers; Mount: Surface Mount; Case/Package: QFN; Min Operating Temperature: -40°C; Max Operating Temperature: 125°C; Packaging: Tape and Reel; Max Output Current: 1A; RoHS Compliant: Yes; Lead Free: Lead Free; ComponentLink1URL: http://www.microchip.com/mymicrochip/filehandler.aspx?ddocname=en579238&src-supplier=Digi-Key; ComponentLink1Description: http://www.microchip.com/mymicrochip/filehandler.aspx?ddocname=en579238&src-supplier=Digi-Key; Supplier Part Number 1: 2451749
footprint MIC4606-QFN44
pins: 1 NC, 2 AHB, 3 AHO (out), 4 AHS, 5 ALO (out), 6 VDD (power), 7 VSS (power), 8 BLO (out), 9 BHS (io), 10 BHO (out), 11 BHB, 12 EN (in), 13 BHI (in), 14 BLI (in), 15 ALI (in), 16 AHI (in), 17 EP (power)

## IC_NC7SZ57P6X
designator IC?, comment NC7SZ57P6X
FAIRCHILD SEMICONDUCTOR         NC7SZ57P6X.            Multi-Function Logic Gate, Configurable, Ultra High Speed, 3 Input, 32 mA, 1.65V to 5.5V, SC-70-6; Manufacturer: ON Semiconductor / Fairchild; High Level Output Current: -32mA; Low Level Output Current: 32mA; Number of Gates: 1; Propagation Delay: 14.5ns; Logic Function: Multi Function; Quiescent Current: 1uA; Number of Inputs: 2; Schmitt Trigger Input: Yes; PCBChecked: initials after Checked; Supplier 1: Digi-Key; Manufacturer Part Number: NC7SZ57P6X; RoHS: Yes; Category: Logic Gates; Mount: Surface Mount; Case/Package: SC; Number of Pins: 6; Weight: 0.028g; Number of Terminals: 6; Min Operating Temperature: -40°C; Max Operating Temperature: 85°C; Max Supply Voltage: 5.5V; Min Supply Voltage: 1.65V; Packaging: Tape and Reel; Number of Circuits: 1; Turn-On Delay Time: 14.5ns; Number of Outputs: 1; Number of Elements: 1; Output Current: 32mA; Package Quantity: 3000; Length: 2mm; Height: 1mm; Width: 1.25mm; Radiation Hardening: No; Lead Free: Lead Free; REACH SVHC: No SVHC; ComponentLink1URL: https://datasheet.ciiva.com/34301/874445-34301638.pdf?src-supplier=Jameco; ComponentLink1Description: https://datasheet.ciiva.com/34301/874445-34301638.pdf?src-supplier=Jameco; ComponentLink2URL: https://datasheet.ciiva.com/25628/0900766b80f9b61c-25628492.pdf?src-supplier=RSComponents; ComponentLink2Description: https://datasheet.ciiva.com/25628/0900766b80f9b61c-25628492.pdf?src-supplier=RSComponents; ComponentLink3URL: https://datasheet.ciiva.com/15090/getdatasheetpartid-53023-15090335.pdf?src-supplier=Verical; ComponentLink3Description: https://datasheet.ciiva.com/15090/getdatasheetpartid-53023-15090335.pdf?src-supplier=Verical; ComponentLink4URL: https://datasheet.ciiva.com/1880/nc7sz57-1880020.pdf?src-supplier=Digi-Key; ComponentLink4Description: https://datasheet.ciiva.com/1880/nc7sz57-1880020.pdf?src-supplier=Digi-Key; ComponentLink5URL: https://datasheet.ciiva.com/8249/nc7sz57-8249558.pdf?src-supplier=Avnet; ComponentLink5Description: https://datasheet.ciiva.com/8249/nc7sz57-8249558.pdf?src-supplier=Avnet; ComponentLink6URL: https://datasheet.ciiva.com/16503/nc7sz57-16503560.pdf?src-supplier=Avnet+Asia; ComponentLink6Description: https://datasheet.ciiva.com/16503/nc7sz57-16503560.pdf?src-supplier=Avnet+Asia; ComponentLink7URL: https://datasheet.ciiva.com/1880/nc7sz57-1880021.pdf?src-supplier=Digi-Key; ComponentLink7Description: https://datasheet.ciiva.com/1880/nc7sz57-1880021.pdf?src-supplier=Digi-Key; ComponentLink8URL: https://datasheet.ciiva.com/7970/1727673-7970677.pdf?src-supplier=Element14; ComponentLink8Description: https://datasheet.ciiva.com/7970/1727673-7970677.pdf?src-supplier=Element14; ComponentLink9URL: https://datasheet.ciiva.com/1880/nc7sz57-1880022.pdf?src-supplier=Digi-Key; ComponentLink9Description: https://datasheet.ciiva.com/1880/nc7sz57-1880022.pdf?src-supplier=Digi-Key; ComponentLink10URL: https://datasheet.ciiva.com/16977/nc7sz57-16977945.pdf?src-supplier=Future+Electronics; ComponentLink10Description: https://datasheet.ciiva.com/16977/nc7sz57-16977945.pdf?src-supplier=Future+Electronics; Supplier Part Number 1: NC7SZ57P6XCT-ND; Stock 1: 16277; IPC7352C: done; SCHChecked: Initials after checked
footprint NC7SZ57P6X (SOT23, 6-Leads, Body 2,00x2,10mm, Pitch 0,65mm, IPC Medium Density)
pins: 1 I1 (in), 2 GND, 3 I0 (in), 4 Y (out), 5 Vcc, 6 I2 (in)

## IC_NC7SZ126M5X
designator IC?, comment NC7SZ126M5X
ON SEMICONDUCTOR - NC7SZ126M5X - NON INVERTING UHS BUFFER, SOT-23-5; Manufacturer: ON Semiconductor / Fairchild; Logic Function: Buffer,Inverting; Polarity: Non-Inverting; Max Supply Voltage: 5.5V; Min Supply Voltage: 1.65V; Propagation Delay: 15.6ns; Max Power Dissipation: 200mW; High Level Output Current: -32mA; Low Level Output Current: 32mA; Number of Input Lines: 1; Quiescent Current: 2uA; Supplier 1: Farnell; Manufacturer Part Number: NC7SZ126M5X; RoHS: Yes; Category: Amplifiers - Op Amps, Buffer, Instrumentation; Stock 1: 10180; Pricing 1: 5=0,29300, 50=0,20500, 100=0,11600, 250=0,09940, 500=0,08280, 1000=0,06620, 5000=0,05840, 10000=0,05720 (EUR); Mount: Surface Mount; Case/Package: SOT-23; Number of Pins: 5; Weight: 0.03g; Contact Plating: Tin,Matte; Min Operating Temperature: -40°C; Max Operating Temperature: 85°C; Packaging: Tape and Reel; Number of Output Lines: 1; Number of Channels: 1; Number of Inputs: 1; Number of Outputs: 1; Package Quantity: 3000; Number of Elements: 1; Number of Bits per Element: 1; Turn-On Delay Time: 15.6ns; Number of Circuits: 1; Number of Bits: 1; Length: 3mm; Height: 1.3mm; Width: 1.7mm; Radiation Hardening: No; REACH SVHC: No SVHC; Lead Free: Lead Free; ComponentLink1URL: https://datasheet.ciiva.com/34301/1017648-34301876.pdf?src-supplier=Jameco; ComponentLink1Description: https://datasheet.ciiva.com/34301/1017648-34301876.pdf?src-supplier=Jameco; ComponentLink2URL: https://datasheet.ciiva.com/15094/getdatasheetpartid-116970-15094712.pdf?src-supplier=Verical; ComponentLink2Description: https://datasheet.ciiva.com/15094/getdatasheetpartid-116970-15094712.pdf?src-supplier=Verical; ComponentLink3URL: https://datasheet.ciiva.com/1832/nc7sz126-1832246.pdf?src-supplier=Digi-Key; ComponentLink3Description: https://datasheet.ciiva.com/1832/nc7sz126-1832246.pdf?src-supplier=Digi-Key; ComponentLink4URL: https://datasheet.ciiva.com/1832/nc7sz126-1832247.pdf?src-supplier=Digi-Key; ComponentLink4Description: https://datasheet.ciiva.com/1832/nc7sz126-1832247.pdf?src-supplier=Digi-Key; ComponentLink5URL: https://datasheet.ciiva.com/26096/nc7sz126-26096503.pdf?src-supplier=Avnet+Europe; ComponentLink5Description: https://datasheet.ciiva.com/26096/nc7sz126-26096503.pdf?src-supplier=Avnet+Europe; ComponentLink6URL: https://datasheet.ciiva.com/1832/nc7sz126-1832248.pdf?src-supplier=Digi-Key; ComponentLink6Description: https://datasheet.ciiva.com/1832/nc7sz126-1832248.pdf?src-supplier=Digi-Key; ComponentLink7URL: https://datasheet.ciiva.com/46415/710931-46415384.pdf?src-supplier=Element14; ComponentLink7Description: https://datasheet.ciiva.com/46415/710931-46415384.pdf?src-supplier=Element14; ComponentLink8URL: https://datasheet.ciiva.com/16778/nc7sz126-16778605.pdf?src-supplier=Future+Electronics; ComponentLink8Description: https://datasheet.ciiva.com/16778/nc7sz126-16778605.pdf?src-supplier=Future+Electronics; ComponentLink9URL: https://datasheet.ciiva.com/8260/nc7sz126-8260062.pdf?src-supplier=Avnet; ComponentLink9Description: https://datasheet.ciiva.com/8260/nc7sz126-8260062.pdf?src-supplier=Avnet; Supplier Part Number 1: 2453006
footprint NC7SZ126M5X_SOT23-5 (SOT-23, 5-Leads, Body 2.9x1.6mm, Pitch 0.95mm, IPC High Density)
pins: 1 ~{OE} (in), 2 A (in), 3 GND (power), 4 Y (out), 5 VCC (power)

## IC_NCV4264-2ST50T3G
designator IC?, comment NCV4264-2ST50T3G
LDO Regulator Pos 5V 0.15A Automotive 4-Pin(3+Tab) SOT-223 T/R; Manufacturer: ON Semiconductor; Accuracy: 2%; Dropout Voltage: 270mV; Max Input Voltage: 45V; Min Input Voltage: 4.5V; Output Current: 150mA; Number of Outputs: 1; Output Type: Fixed; Input Bias Current: 33uA; Polarity: Positive; Quiescent Current: 55uA; Supplier 1: Mouser; Manufacturer Part Number: NCV4264-2ST50T3G; RoHS: Yes; Category: Voltage Regulators - Linear; Stock 1: 7899; Pricing 1: 1=0,88000, 10=0,70500, 100=0,47700, 500=0,45300, 1000=0,34600, 4000=0,33400 (USD); Mount: Surface Mount; Case/Package: SOT-223; Number of Pins: 3; Contact Plating: Tin,Matte; Min Operating Temperature: -40°C; Max Operating Temperature: 150°C; Output Voltage Accuracy: 2%; Output Voltage: 5V; Package Quantity: 1; Packaging: Tape and Reel; Max Output Current: 150mA; Number of Regulators: 1; Min Current Limit: 150mA; Nominal Output Voltage: 5V; Radiation Hardening: No; REACH SVHC: No SVHC; Lead Free: Lead Free; ComponentLink1URL: https://datasheet.ciiva.com/13020/ncv4264-2-d-114699-13020899.pdf?src-supplier=Mouser; ComponentLink1Description: https://datasheet.ciiva.com/13020/ncv4264-2-d-114699-13020899.pdf?src-supplier=Mouser; ComponentLink2URL: https://datasheet.ciiva.com/15111/getdatasheetpartid-89032-15111567.pdf?src-supplier=Verical; ComponentLink2Description: https://datasheet.ciiva.com/15111/getdatasheetpartid-89032-15111567.pdf?src-supplier=Verical; ComponentLink3URL: https://datasheet.ciiva.com/23824/1712829-23824593.pdf?src-supplier=Newark; ComponentLink3Description: https://datasheet.ciiva.com/23824/1712829-23824593.pdf?src-supplier=Newark; ComponentLink4URL: https://datasheet.ciiva.com/8233/ncv4264-2-d-8233467.pdf?src-supplier=Avnet; ComponentLink4Description: https://datasheet.ciiva.com/8233/ncv4264-2-d-8233467.pdf?src-supplier=Avnet; ComponentLink5URL: https://datasheet.ciiva.com/8232/ncv4264-2-d-8232172.pdf?src-supplier=Avnet; ComponentLink5Description: https://datasheet.ciiva.com/8232/ncv4264-2-d-8232172.pdf?src-supplier=Avnet; ComponentLink6URL: https://datasheet.ciiva.com/2062/ncv4264-2-d-2062610.pdf?src-supplier=Digi-Key; ComponentLink6Description: https://datasheet.ciiva.com/2062/ncv4264-2-d-2062610.pdf?src-supplier=Digi-Key; ComponentLink7URL: https://datasheet.ciiva.com/2062/ncv4264-2-d-2062611.pdf?src-supplier=Digi-Key; ComponentLink7Description: https://datasheet.ciiva.com/2062/ncv4264-2-d-2062611.pdf?src-supplier=Digi-Key; ComponentLink8URL: https://datasheet.ciiva.com/26178/ncv4264-2-d-26178796.pdf?src-supplier=Avnet+Europe; ComponentLink8Description: https://datasheet.ciiva.com/26178/ncv4264-2-d-26178796.pdf?src-supplier=Avnet+Europe; Supplier Part Number 1: 863-NCV4264-2ST50T3G
footprint NCV4264-2ST50T3G_SOT-223 (SOT223, 4-Leads, Body 6.5x3.5mm, Pitch 2.3mm, Lead Span 7mm, IPC Medium Density)
pins: 1 Vin, 2 GND, 3 Vout, 4 GND

## IC_OPA376AIDCKR
designator IC?, comment OPA376AIDCKR
OP Amp Single GP R-R O/P 5.5V 5-Pin SC-70 T/R; Manufacturer: Texas Instruments; Min Supply Voltage: 2.2V; Voltage Gain: 134dB; Common Mode Rejection Ratio: 76dB; Gain Bandwidth Product: 5.5MHz; Output Current: 30mA; Nominal Supply Current: 950uA; Number of Channels: 1; Slew Rate: 2V/µs; Max I/O Voltage: 25uV; Input Bias Current: 10pA; Operating Supply Current: 760uA; Output Current per Channel: 50mA; Power Supply Rejection Ratio (PSRR): 106.02dB; Amplifier Type: GENERAL PURPOSE; Supplier 1: Mouser; Manufacturer Part Number: OPA376AIDCKR; RoHS: Yes; Category: Amplifiers - Op Amps, Buffer, Instrumentation; Stock 1: 1233; Case/Package: SC; Number of Pins: 5; Contact Plating: Gold; Min Operating Temperature: -40°C; Max Operating Temperature: 125°C; Max Supply Voltage: 5.5V; Unity Gain Bandwidth Product: 5.5MHz; Packaging: Tape and Reel; Package Quantity: 3000; Bandwidth: 5.5MHz; Number of Circuits: 1; Input Offset Voltage (Vos): 25uV; Number of Elements: 1; Number of Amplifiers: 1; Series: e-trim™; Supply Current: 950uA; Technology: CMOS; Radiation Hardening: No; REACH SVHC: No SVHC; Lead Free: Lead Free; RoHS Compliant: Yes; ComponentLink1URL: https://datasheet.ciiva.com/26854/opa376aidckr-26854113.pdf?src-supplier=IIIC; ComponentLink1Description: https://datasheet.ciiva.com/26854/opa376aidckr-26854113.pdf?src-supplier=IIIC; ComponentLink2URL: https://datasheet.ciiva.com/18622/opa2376-18622117.pdf?src-supplier=Digi-Key; ComponentLink2Description: https://datasheet.ciiva.com/18622/opa2376-18622117.pdf?src-supplier=Digi-Key; ComponentLink3URL: https://datasheet.ciiva.com/18622/opa2376-18622118.pdf?src-supplier=Digi-Key; ComponentLink3Description: https://datasheet.ciiva.com/18622/opa2376-18622118.pdf?src-supplier=Digi-Key; Supplier Part Number 1: 595-OPA376AIDCKR
footprint OPA376_DCK0005A_L (SOT23, 5-Leads, Body 2.15x1.4mm, Pitch 0.65mm, IPC High Density)
pins: 1 IN+ (in), 2 V- (power), 3 IN- (in), 4 OUT (out), 5 V+ (power)

## IC_OPA2333AIDG4
designator IC?, comment OPA2333AIDG4
17 uA, MicroPower, Precision, Zero Drift CMOS Operational Amplifier, 1.8 to 5.5 V, -40 to 125 degC, 8-pin SOIC (D8), Green (RoHS & no Sb/Br); Manufacturer: Texas Instruments; Slew Rate(Typ)(V/us): 0.16; Offset Drift(Typ)(uV/C): 0.02; Sub Family: Low Offset Voltage Amplifier (<=500uV), Low Power Amp (<=500uA), Low Supply Voltage Amplifier (<=2.7V), Precision Amplifier, Zero Drift Precision Amplifier; Iq per channel(Max)(mA): 0.025; CMRR(Min)(dB): 106; Number of Channels: 2; IIB(Max)(pA): 200; Total Supply Voltage(Min)(+5V is 5, +/-5V is 10): 1.8; Total Supply Voltage(Max)(+5V is 5, +/-5V is 10): 5.5; Vio (25C)(Max)(mV): 0.01; PackageReference: D8; Mounting Technology: Surface Mount; ComponentLink3Description: Package Specification; Eco-Plan: Green (RoHS & no Sb/Br); ComponentLink2URL: http://www.ti.com/general/docs/lit/getliterature.tsp?genericPartNumber=OPA2333&fileType=pdf; Code_JEDEC: MS-012; PartNumber: OPA2333AIDG4; ComponentLink2Description: Datasheet; ComponentLink1Description: Manufacturer URL; ComponentLink3URL: http://www.ti.com/litv/pdf/msoi002j; DatasheetVersion: SBOS351C; ComponentLink1URL: http://www.ti.com/; PackageVersion: 4040047-3/M, 06/2011; PackageDescription: 8-Pin Plastic Small Outline, Body 4.9 x 3.9 mm, Pitch 1.27 mm
footprint OPA2333_SOIC8
part A pins: 1 OUT A (out), 2 IN A- (in), 3 IN A+ (in), 4, 8
part B pins: 5 IN B+ (in), 6 IN B- (in), 7 OUT B (out)

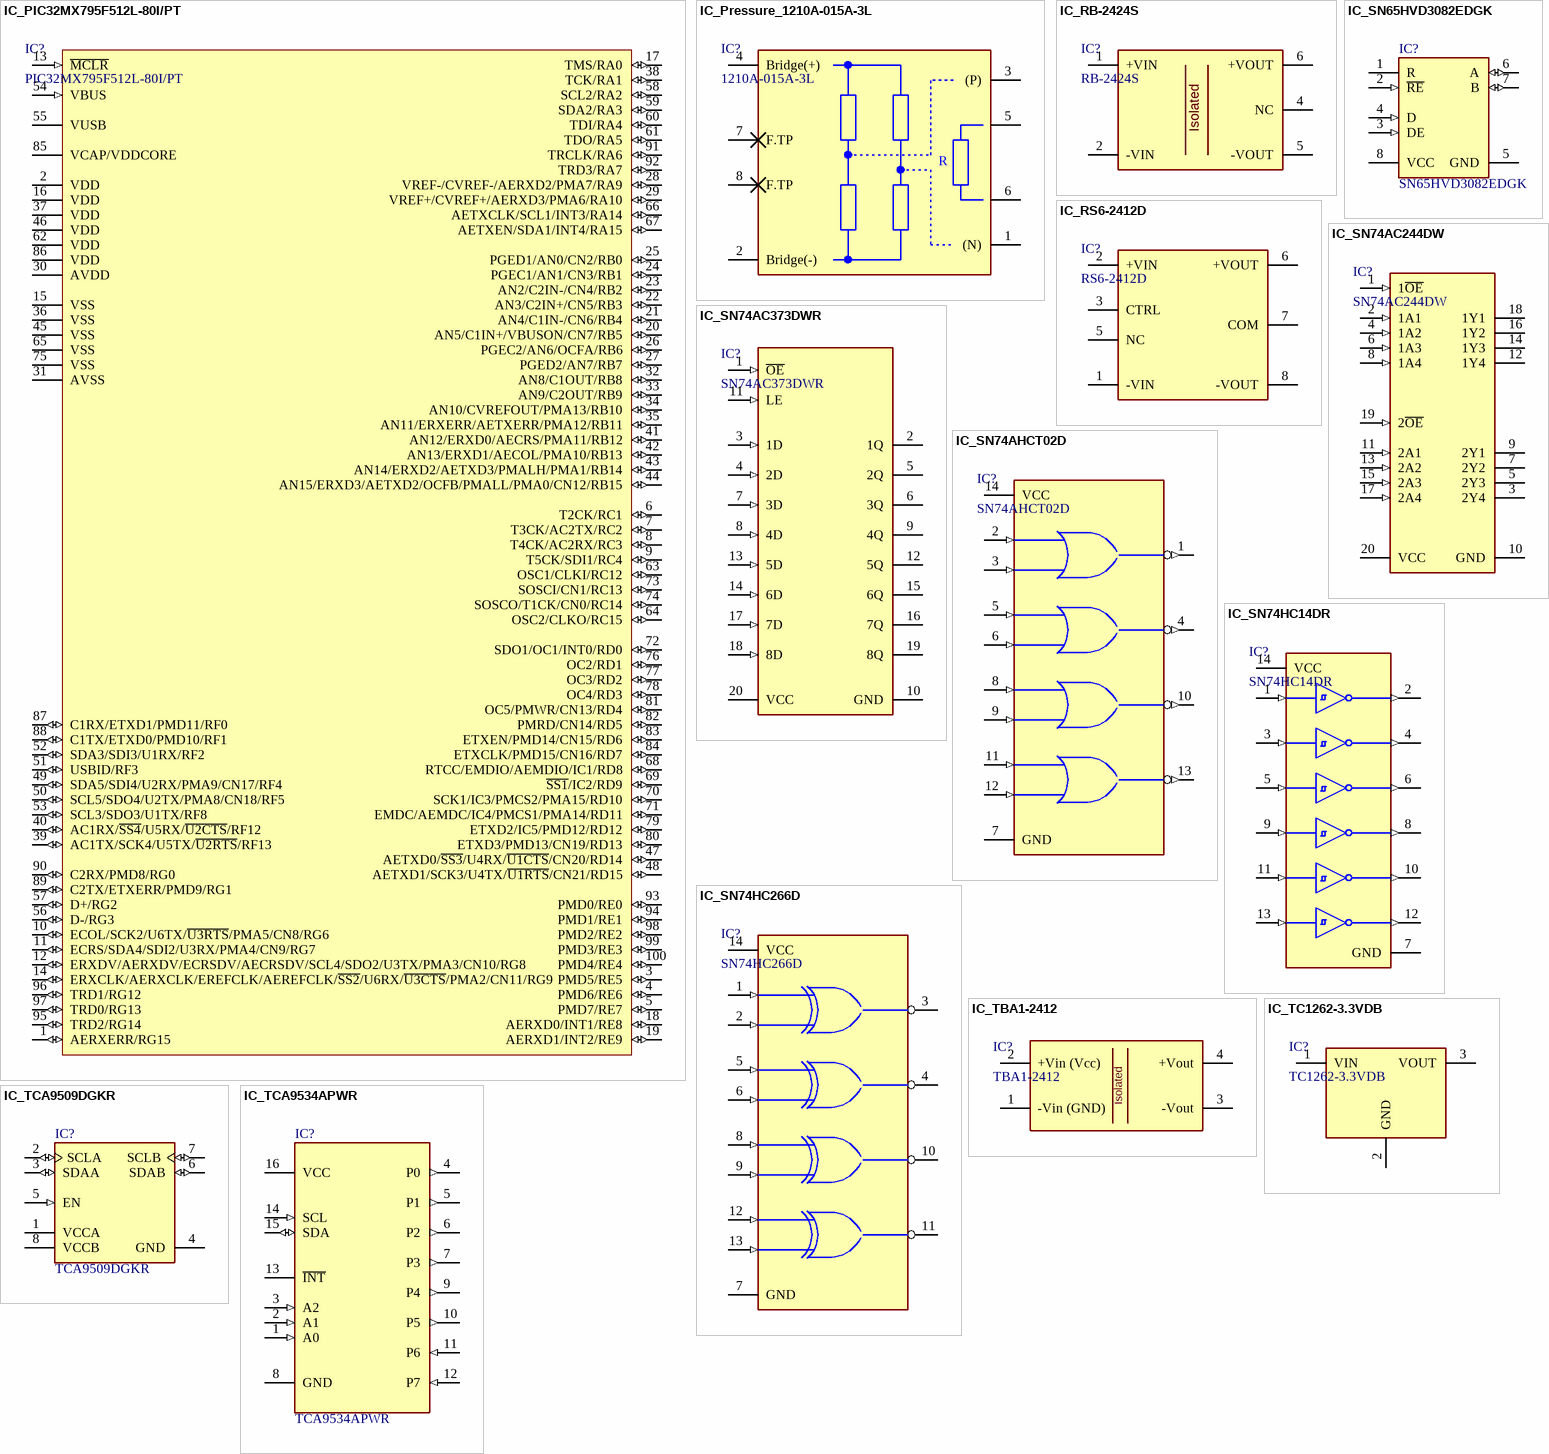
[diagram p12: symbols IC_PIC32MX795F512L-80I/PT to IC_TCA9534APWR]

## IC_PIC32MX795F512L-80I/PT
designator IC?, comment PIC32MX795F512L-80I/PT
MICROCHIP - PIC32MX795F512L-80I/PT - MCU, 32BIT, PIC32, 80MHZ, TQFP-100; Number of PWM Channels: 5; RAM Size: 128KB; Interface: I2C,SPI,USB,CAN,Ethernet,UART,USART; Number of I/Os: 85; Number of Ethernet Channels: 1; Number of ADC Channels: 16; Max Supply Voltage: 3.6V; Min Supply Voltage: 2.3V; Number of UART Channels: 6; Data Bus Width: 32b; Number of SPI Channels: 4; Number of Bits: 32; Memory Type: FLASH; Watchdog Timer: Yes; Memory Size: 512KB; Nominal Supply Current: 37mA; Peripherals: PWM,I2C; Core Architecture: PIC; Supplier 1: Farnell; Manufacturer: Microchip; Manufacturer Part Number: PIC32MX795F512L-80I/PT; RoHS: Yes; Category: Microcontrollers; Stock 1: 6264; Pricing 1: 1=8,21000, 10=7,87000, 25=7,52000, 100=6,82000 (EUR); Mount: Surface Mount; Case/Package: TQFP; Number of Pins: 100; Min Operating Temperature: -40°C; Max Operating Temperature: 85°C; Packaging: Tray; Number of Timers/Counters: 5; Frequency: 80MHz; Package Quantity: 119; Number of Programmable I/O: 85; Max Frequency: 80MHz; Number of I2C Channels: 5; Number of A/D Converters: 1; Address Bus Width: 32b; Length: 12mm; Width: 12mm; Height: 1.05mm; Radiation Hardening: No; REACH SVHC: No SVHC; Lead Free: Lead Free; ComponentLink1URL: https://datasheet.ciiva.com/26818/pic32mx795f512l-80i-pt-26818177.pdf?src-supplier=IIIC; ComponentLink1Description: https://datasheet.ciiva.com/26818/pic32mx795f512l-80i-pt-26818177.pdf?src-supplier=IIIC; ComponentLink2URL: https://datasheet.ciiva.com/3203/61156g-3203541.pdf?src-supplier=Avnet; ComponentLink2Description: https://datasheet.ciiva.com/3203/61156g-3203541.pdf?src-supplier=Avnet; ComponentLink3URL: https://datasheet.ciiva.com/16380/61156h-16380165.pdf?src-supplier=Future+Electronics; ComponentLink3Description: https://datasheet.ciiva.com/16380/61156h-16380165.pdf?src-supplier=Future+Electronics; ComponentLink4URL: https://datasheet.ciiva.com/14184/pic32mx5xx-6xx-7xx-eng-datasheet-14184854.pdf?src-supplier=Distrelec; ComponentLink4Description: https://datasheet.ciiva.com/14184/pic32mx5xx-6xx-7xx-eng-datasheet-14184854.pdf?src-supplier=Distrelec; ComponentLink5URL: https://datasheet.ciiva.com/18404/70047537-18404406.pdf?src-supplier=Allied+Electronics; ComponentLink5Description: https://datasheet.ciiva.com/18404/70047537-18404406.pdf?src-supplier=Allied+Electronics; ComponentLink6URL: https://datasheet.ciiva.com/7665/1703119-7665672.pdf?src-supplier=Element14; ComponentLink6Description: https://datasheet.ciiva.com/7665/1703119-7665672.pdf?src-supplier=Element14; ComponentLink7URL: https://datasheet.ciiva.com/1497/61156g-1497275.pdf?src-supplier=Digi-Key; ComponentLink7Description: https://datasheet.ciiva.com/1497/61156g-1497275.pdf?src-supplier=Digi-Key; ComponentLink8URL: https://datasheet.ciiva.com/29330/651810-da-01-en-mcu-pic32mx795f512l-80i-pt-tqfp-100-mcp-29330427.pdf?src-supplier=Conrad; ComponentLink8Description: https://datasheet.ciiva.com/29330/651810-da-01-en-mcu-pic32mx795f512l-80i-pt-tqfp-100-mcp-29330427.pdf?src-supplier=Conrad; Supplier Part Number 1: 1778492
footprint PIC32MX795F512L_TQFP-PT100_N (Thin QFP, 100-Leads, Body 12x12mm, Pitch 0.4mm, IPC Medium Density)
pins: 1 AERXERR/RG15 (io), 2 VDD (power), 3 PMD5/RE5 (io), 4 PMD6/RE6 (io), 5 PMD7/RE7 (io), 6 T2CK/RC1 (io), 7 T3CK/AC2TX/RC2 (io), 8 T4CK/AC2RX/RC3 (io), 9 T5CK/SDI1/RC4 (io), 10 ECOL/SCK2/U6TX/~{U3RTS}/PMA5/CN8/RG6 (io), 11 ECRS/SDA4/SDI2/U3RX/PMA4/CN9/RG7 (io), 12 ERXDV/AERXDV/ECRSDV/AECRSDV/SCL4/SDO2/U3TX/PMA3/CN10/RG8 (io), 13 ~{MCLR} (in), 14 ERXCLK/AERXCLK/EREFCLK/AEREFCLK/~{SS2}/U6RX/~{U3CTS}/PMA2/CN11/RG9 (io), 15 VSS (power), 16 VDD (power), 17 TMS/RA0 (io), 18 AERXD0/INT1/RE8 (io), 19 AERXD1/INT2/RE9 (io), 20 AN5/C1IN+/VBUSON/CN7/RB5 (io), 21 AN4/C1IN-/CN6/RB4 (io), 22 AN3/C2IN+/CN5/RB3 (io), 23 AN2/C2IN-/CN4/RB2 (io), 24 PGEC1/AN1/CN3/RB1 (io), 25 PGED1/AN0/CN2/RB0 (io), 26 PGEC2/AN6/OCFA/RB6 (io), 27 PGED2/AN7/RB7 (io), 28 VREF-/CVREF-/AERXD2/PMA7/RA9 (io), 29 VREF+/CVREF+/AERXD3/PMA6/RA10 (io), 30 AVDD (power), 31 AVSS (power), 32 AN8/C1OUT/RB8 (io), 33 AN9/C2OUT/RB9 (io), 34 AN10/CVREFOUT/PMA13/RB10 (io), 35 AN11/ERXERR/AETXERR/PMA12/RB11 (io), 36 VSS (power), 37 VDD (power), 38 TCK/RA1 (io), 39 AC1TX/SCK4/U5TX/~{U2RTS}/RF13 (io), 40 AC1RX/~{SS4}/U5RX/~{U2CTS}/RF12 (io), 41 AN12/ERXD0/AECRS/PMA11/RB12 (io), 42 AN13/ERXD1/AECOL/PMA10/RB13 (io), 43 AN14/ERXD2/AETXD3/PMALH/PMA1/RB14 (io), 44 AN15/ERXD3/AETXD2/OCFB/PMALL/PMA0/CN12/RB15 (io), 45 VSS (power), 46 VDD (power), 47 AETXD0/~{SS3}/U4RX/~{U1CTS}/CN20/RD14 (io), 48 AETXD1/SCK3/U4TX/~{U1RTS}/CN21/RD15 (io), 49 SDA5/SDI4/U2RX/PMA9/CN17/RF4 (io), 50 SCL5/SDO4/U2TX/PMA8/CN18/RF5 (io), 51 USBID/RF3 (io), 52 SDA3/SDI3/U1RX/RF2 (io), 53 SCL3/SDO3/U1TX/RF8 (io), 54 VBUS (in), 55 VUSB (power), 56 D-/RG3 (io), 57 D+/RG2 (io), 58 SCL2/RA2 (io), 59 SDA2/RA3 (io), 60 TDI/RA4 (io), 61 TDO/RA5 (io), 62 VDD (power), 63 OSC1/CLKI/RC12 (io), 64 OSC2/CLKO/RC15 (io), 65 VSS (power), 66 AETXCLK/SCL1/INT3/RA14 (io), 67 AETXEN/SDA1/INT4/RA15 (io), 68 RTCC/EMDIO/AEMDIO/IC1/RD8 (io), 69 ~{SS1}/IC2/RD9 (io), 70 SCK1/IC3/PMCS2/PMA15/RD10 (io), 71 EMDC/AEMDC/IC4/PMCS1/PMA14/RD11 (io), 72 SDO1/OC1/INT0/RD0 (io), 73 SOSCI/CN1/RC13 (io), 74 SOSCO/T1CK/CN0/RC14 (io), 75 VSS (power), 76 OC2/RD1 (io), 77 OC3/RD2 (io), 78 OC4/RD3 (io), 79 ETXD2/IC5/PMD12/RD12 (io), 80 ETXD3/PMD13/CN19/RD13 (io), 81 OC5/PMWR/CN13/RD4 (io), 82 PMRD/CN14/RD5 (io), 83 ETXEN/PMD14/CN15/RD6 (io), 84 ETXCLK/PMD15/CN16/RD7 (io), 85 VCAP/VDDCORE (power), 86 VDD (power), 87 C1RX/ETXD1/PMD11/RF0 (io), 88 C1TX/ETXD0/PMD10/RF1 (io), 89 C2TX/ETXERR/PMD9/RG1 (io), 90 C2RX/PMD8/RG0 (io), 91 TRCLK/RA6 (io), 92 TRD3/RA7 (io), 93 PMD0/RE0 (io), 94 PMD1/RE1 (io), 95 TRD2/RG14 (io), 96 TRD1/RG12 (io), 97 TRD0/RG13 (io), 98 PMD2/RE2 (io), 99 PMD3/RE3 (io), 100 PMD4/RE4 (io)

## IC_Pressure_1210A-015A-3L
designator IC?, comment 1210A-015A-3L
PN 1210A-015A-3L Drucksensoren für Plattenmontage 0-15psia 0-100mV Long Port
footprint CON_1210A-015A-3L (Mouser 824-1210A-015A-3L)
pins: 1 (N) (power) "A-side supplyVoltage (0.9V to VCCB - 1V)", 2 Bridge(-) (power) "A-side supplyVoltage (0.9V to VCCB - 1V)", 3 (P) (power) "A-side supplyVoltage (0.9V to VCCB - 1V)", 4 Bridge(+) (power) "A-side supplyVoltage (0.9V to VCCB - 1V)", 5 (power) "A-side supplyVoltage (0.9V to VCCB - 1V)", 6 (power) "A-side supplyVoltage (0.9V to VCCB - 1V)", 7 F.TP (power) "A-side supplyVoltage (0.9V to VCCB - 1V)", 8 F.TP (power) "A-side supplyVoltage (0.9V to VCCB - 1V)"
text: R